# Altium schematic symbol library RS485_SCH_Lib.SchLib: 30 symbols
Pins are listed as number, name and electrical type; pins without a type are passive.

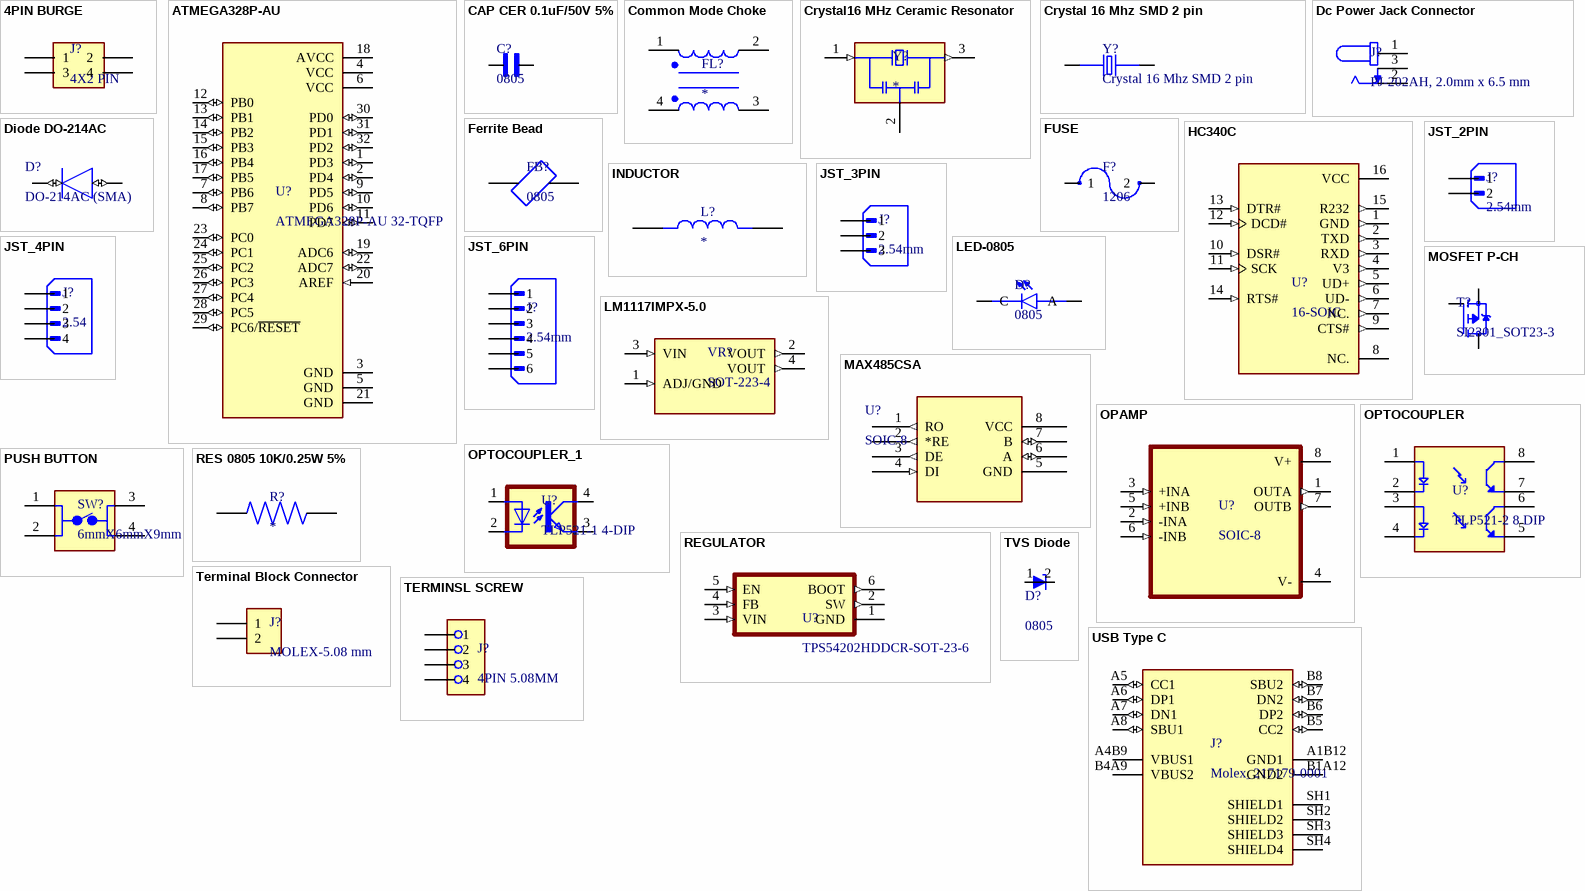
[diagram p0: symbols 4PIN BURGE to USB Type C]

## 4PIN BURGE
designator J?, comment 4X2 PIN
Connector Header Through Hole 4 position 0.100 (2.54mm), 4X2 PIN; MF: Samtec; MP: MTLW-102-05-G-D-180; SnapEDA_Link: https://www.snapeda.com/parts/MTLW-102-05-G-D-180/Samtec/view-part/?ref=snap; Package: None; Value: *; Check_prices: https://www.snapeda.com/parts/MTLW-102-05-G-D-180/Samtec/view-part/?ref=eda
footprint 4PIN BURGE (Connector Header Through Hole 4 position 0.100 (2.54mm), 4X2 PIN)
pins: 01 1, 02 2, 03 3, 04 4

## ATMEGA328P-AU
designator U?, comment ATMEGA328P-AU 32-TQFP
AVR AVRÂ® ATmega Microcontroller IC 8-Bit 20MHz 32KB (16K x 16) FLASH 32-TQFP (7x7); MF: Microchip; SnapEDA_Link: https://www.snapeda.com/parts/ATMEGA328P-AU/Microchip/view-part/?ref=snap; Package: TQFP-32 Microchip; Value: *; MP: ATMEGA328P-AU; Check_prices: https://www.snapeda.com/parts/ATMEGA328P-AU/Microchip/view-part/?ref=eda
footprint ATMEGA328P-AU (ATMEGA328P-AU MCU 8-bit 20 MHz - 32 KB - 2 KB - TQFN32)
pins: 1 PD3 (io), 2 PD4 (io), 3 GND (power), 4 VCC (power), 5 GND (power), 6 VCC (power), 7 PB6 (io), 8 PB7 (io), 9 PD5 (io), 10 PD6 (io), 11 PD7 (io), 12 PB0 (io), 13 PB1 (io), 14 PB2 (io), 15 PB3 (io), 16 PB4 (io), 17 PB5 (io), 18 AVCC (power), 19 ADC6 (io), 20 AREF (in), 21 GND (power), 22 ADC7 (io), 23 PC0 (io), 24 PC1 (io), 25 PC2 (io), 26 PC3 (io), 27 PC4 (io), 28 PC5 (io), 29 PC6/~{RESET} (io), 30 PD0 (io), 31 PD1 (io), 32 PD2 (io)

## CAP CER 0.1uF/50V 5%
designator C?, comment 0805
CAP CER 0.1uF/50V X7R 0805; MP: GCJ216R71H222KA01D; Package: None; Price: None; Value: *; Availability: Unavailable
footprint CAP CER 100pF 5% (CAP CER 100PF50V X7R 0805)
pins: 1, 2

## Common Mode Choke
designator FL?
DLW21HN900SQ2L,2 Line Common Mode Choke Surface Mount 90 Ohms @ 100MHz 330mA DCR 350mOhm; MF: Murata Electronics; MP: DLW21HN900SQ2L; Availability: In Stock; Value: *; Price: None; SnapEDA_Link: https://www.snapeda.com/parts/DLW21HN900SQ2L/Murata/view-part/10021/?ref=snap; Check_prices: https://www.snapeda.com/parts/DLW21HN900SQ2L/Murata/view-part/10021/?ref=eda; Package: Horizontal-4 Murata Electronics
footprint Common Mode Choke (DLW21HN900SQ2L,2 Line Common Mode Choke Surface Mount 90 Ohms @ 100MHz 330mA DCR 350mOhm)
pins: 1, 2, 3, 4

## Crystal16 MHz Ceramic Resonator
designator Y?
16 MHz Ceramic Resonator Built in Capacitor 15 pF Â±0.3% -20Â°C ~ 80Â°C Surface Mount-CSTCE16M0V53-R0; MF: Murata; MP: CSTCE16M0V53-R0-; SnapEDA_Link: https://www.snapeda.com/parts/CSTCE16M0V53-R0-/Murata/view-part/?ref=snap; Package: None; Value: *; Check_prices: https://www.snapeda.com/parts/CSTCE16M0V53-R0-/Murata/view-part/?ref=eda
footprint Crystal16 MHz Ceramic Resonator (16 MHz Ceramic Resonator Built in Capacitor 15 pF Â±0.3% -20Â°C ~ 80Â°C Surface Mount-CSTCE16M0V53-R0)
pins: 1 IN (in), 2 GND (power), 3 OUT (out)

## Crystal 16 Mhz SMD 2 pin
designator Y?
16 Mhz Crystal SMD –CSM-4ALX(28ALX) 12.5mmX4.85mmX4mm; MF: Fox Electronics; MP: FOXSDLF/128-20; SnapEDA_Link: https://www.snapeda.com/parts/FOXSDLF/128-20/Fox+Electronics/view-part/?ref=snap; Package: HC49SD Fox Electronics; Value: *; Check_prices: https://www.snapeda.com/parts/FOXSDLF/128-20/Fox+Electronics/view-part/?ref=eda
footprint Crystal 16 Mhz SMD (16 Mhz Crystal SMD –CSM-4ALX(28ALX) 12.5mmX4.85mmX4mm)
pins: 1, 2

## Dc Power Jack Connector
designator J?, comment PJ-202AH, 2.0mm x 6.5 mm
PJ-202AH, 2.0mm x 6.5 mm, 5.0 A, Horizontal, Through Hole, Kinked Pins, Dc Power Jack Connector; MF: Same Sky; SnapEDA_Link: https://www.snapeda.com/parts/PJ-202AH/Same+Sky/view-part/?ref=snap; Package: None; Value: *; MP: PJ-202AH; Check_prices: https://www.snapeda.com/parts/PJ-202AH/Same+Sky/view-part/?ref=eda
footprint Dc Power Jack Connector (CUI_PJ-202AH)
pins: 1, 2, 3

## Diode DO-214AC
designator D?, comment DO-214AC (SMA)
Diode Standard 100 V 1A Surface Mount DO-214AC (SMA); MF: Vishay Semiconductor; MP: S1B-E3/61T; SnapEDA_Link: https://www.snapeda.com/parts/S1B-E3/61T/Vishay/view-part/?ref=snap; Package: DO-214 Vishay Semiconductor; Value: *; Check_prices: https://www.snapeda.com/parts/S1B-E3/61T/Vishay/view-part/?ref=eda
footprint Diode DO-214AC (Diode Standard 100 V 1A Surface Mount DO-214AC (SMA))
pins: 1 K (io), 2 A (io)

## Ferrite Bead
designator FB?, comment 0805
Ferrite Bead 0805; MP: MPZ2012S102AT000; Package: None; Price: None; Value: *; Availability: Unavailable
footprint Ferrite Bead (Ferrite Bead 0805)
pins: 1, 2

## FUSE
designator F?, comment 1206
C1H25 .5 A 125 V AC 32 V DC Fuse Board Mount (Cartridge Style Excluded) Surface Mount 1206 (3216 Metric); MF: Bel Fuse; SnapEDA_Link: https://www.snapeda.com/parts/C1H25/Bel+Circuit+Protection/view-part/?ref=snap; Package: 1206 Bel Fuse Inc.; Value: *; MP: C1H25; Check_prices: https://www.snapeda.com/parts/C1H25/Bel+Circuit+Protection/view-part/?ref=eda
footprint FUSE (C1H25 .5 A 125 V AC 32 V DC Fuse Board Mount (Cartridge Style Excluded) Surface Mount 1206 (3216 Metric))
pins: 1, 2

## HC340C
designator U?, comment 16-SOIC
FTDI 16-SOIC; MF: Toshiba; MP: 74HC595D; SnapEDA_Link: https://www.snapeda.com/parts/74HC595D/Toshiba/view-part/?ref=snap; Package: SOIC-16 ON Semiconductor; Value: *; Check_prices: https://www.snapeda.com/parts/74HC595D/Toshiba/view-part/?ref=eda
footprint HC340C (FTDI 16-SOIC)
pins: 1 GND (out), 2 TXD (out), 3 RXD (out), 4 V3 (out), 5 UD+ (out), 6 UD- (out), 7 NC. (out), 8 NC. (power), 9 CTS# (out), 10 DSR# (in), 11 SCK (in), 12 DCD# (in), 13 DTR# (in), 14 RTS# (in), 15 R232 (out), 16 VCC (power)

## INDUCTOR
designator L?
12 ÂµH Shielded Drum Core, Wirewound Inductor 1.3 A,ASPI-4030S-120M-T; MF: Abracon LLC; Purchase-URL: https://pricing.snapeda.com/search/part/ASPI-4030S-120M-T/?ref=eda; SnapEDA_Link: https://www.snapeda.com/parts/ASPI-4030S-120M-T/Abracon+LLC/view-part/?ref=snap; Package: Nonstandard Abracon; MP: ASPI-4030S-120M-T; Value: *; Check_prices: https://www.snapeda.com/parts/ASPI-4030S-120M-T/Abracon+LLC/view-part/?ref=eda; Availability: In Stock; Price: None
footprint INDUCTOR (IND_ASPI-4030S-120M-T)
pins: 1, 2

## JST_2PIN
designator J?, comment 2.54mm
B2B-XH-A(LF)(SN),Connector Header Through Hole 3 position 0.098 (2.50mm)Connector Header Through Hole 2 position 0.098 (2.50mm); MF: JST Sales; SnapEDA_Link: https://www.snapeda.com/parts/B2B-XH-A(LF)(SN)/JST/view-part/?ref=snap; Package: None; Value: *; MP: B2B-XH-A(LF)(SN); Check_prices: https://www.snapeda.com/parts/B2B-XH-A(LF)(SN)/JST/view-part/?ref=eda
footprint JST_2PIN (B2B-XH-A(LF)(SN),Connector Header Through Hole 3 position 0.098 (2.50mm)Connector Header Through Hole 2 position 0.098 (2.50mm))
pins: 1, 2

## JST_3PIN
designator J?, comment 2.54mm
B3B-XH-A(LF)(SN),Connector Header Through Hole 3 position 0.098 (2.50mm); MF: JST Sales; SnapEDA_Link: https://www.snapeda.com/parts/B3B-XH-A(LF)(SN)/JST/view-part/?ref=snap; Package: None; Value: *; MP: B3B-XH-A(LF)(SN); Check_prices: https://www.snapeda.com/parts/B3B-XH-A(LF)(SN)/JST/view-part/?ref=eda
footprint JST_3PIN (B3B-XH-A(LF)(SN),Connector Header Through Hole 3 position 0.098 (2.50mm))
pins: 1, 2, 3

## JST_4PIN
designator J?, comment 2.54
B4B-XH-A(LF)(SN),Connector Header Through Hole 4 position 0.098 (2.50mm); MF: JST Sales; SnapEDA_Link: https://www.snapeda.com/parts/B4B-XH-A(LF)(SN)/JST+Sales+America+Inc./view-part/?ref=snap; Package: None; Value: *; MP: B4B-XH-A(LF)(SN); Check_prices: https://www.snapeda.com/parts/B4B-XH-A(LF)(SN)/JST+Sales+America+Inc./view-part/?ref=eda
footprint JST_4PIN (B4B-XH-A(LF)(SN),Connector Header Through Hole 4 position 0.098 (2.50mm))
pins: 1, 2, 3, 4

## JST_6PIN
designator J?, comment 2.54mm
B6B-XH-A(LF),Connector Header Through Hole 6 position 0.098 (2.50mm),B6B-XH-A(LF)(SN); MF: JST Sales; SnapEDA_Link: https://www.snapeda.com/parts/B6B-XH-A(LF)(SN)/JST+Sales+America+Inc./view-part/?ref=snap; Package: None; Value: *; MP: B6B-XH-A(LF)(SN); Check_prices: https://www.snapeda.com/parts/B6B-XH-A(LF)(SN)/JST+Sales+America+Inc./view-part/?ref=eda
footprint JST_6PIN (Connector Header Through Hole 6 position 0.098 (2.50mm),B6B-XH-A(LF)(SN))
pins: 1, 2, 3, 4, 5, 6

## LED-0805
designator D?, comment 0805
Red 640nm LED Indication - Discrete 1.85V 0805 (2012 Metric); MF: Kingbright; MP: APT2012SRCPRV; SnapEDA_Link: https://www.snapeda.com/parts/APT2012SRCPRV/Kingbright/view-part/?ref=snap; Package: 0805 Kingbright; Value: *; Check_prices: https://www.snapeda.com/parts/APT2012SRCPRV/Kingbright/view-part/?ref=eda
footprint LED-0805 (Red 640nm LED Indication - Discrete 1.85V 0805 (2012 Metric))
pins: A, C

## LM1117IMPX-5.0
designator VR?, comment SOT-223-4
800-mA 15-V linear voltage regulator; MF: Texas Instruments; MP: LM1117IMPX-5.0/NOPB; SnapEDA_Link: https://www.snapeda.com/parts/LM1117IMPX-5.0/NOPB/Texas+Instruments/view-part/?ref=snap; Package: SOT-223-4 Texas Instruments; Value: *; Check_prices: https://www.snapeda.com/parts/LM1117IMPX-5.0/NOPB/Texas+Instruments/view-part/?ref=eda
footprint LM1117IMPX-5.0
pins: 1 ADJ/GND (in), 2 VOUT (out), 3 VIN (in), 4 VOUT (out)

## MAX485CSA
designator U?, comment SOIC-8
MAX485CSA-RS-485/RS-422 Transceivers, SOIC-8; MF: Analog Devices; MP: MAX485CSA+; SnapEDA_Link: https://www.snapeda.com/parts/MAX485CSA+/Analog+Devices/view-part/?ref=snap; Package: SOIC-8 Maxim; Value: *; Check_prices: https://www.snapeda.com/parts/MAX485CSA+/Analog+Devices/view-part/?ref=eda
footprint MAX485CSA Transceivers (MAX485CSA-RS-485/RS-422 Transceivers, SOIC-8)
pins: 1 RO (out), 2 *RE (out), 3 DE (out), 4 DI (in), 5 GND (power), 6 A (io), 7 B (io), 8 VCC (power)

## MOSFET P-CH
designator T?, comment SI2301_SOT23-3
MOSFET P-CH SI2301 20V 2.2A SOT23-3; MF: Micro Commercial Components (MCC); SnapEDA_Link: https://www.snapeda.com/parts/SI2301/Micro+Commercial+Components/view-part/?ref=snap; Package: SOT-23 MCC; Value: *; MP: SI2301; Check_prices: https://www.snapeda.com/parts/SI2301/Micro+Commercial+Components/view-part/?ref=eda
footprint MOSFET P-CH (MOSFET P-CH 20V 2.2A SOT23-3)
pins: 1 G, 2 S, 3 D

## OPAMP
designator U?, comment SOIC-8
LMV342MA,Dual, 5.5-V, 1-MHz, high output current (75-mA) op amp,SOIC-8; MF: Texas Instruments; MP: LMV342MAX/NOPB; SnapEDA_Link: https://www.snapeda.com/parts/LMV342MAX/NOPB/Texas+Instruments/view-part/?ref=snap; Package: SOIC-8 Texas Instruments; Value: *; Check_prices: https://www.snapeda.com/parts/LMV342MAX/NOPB/Texas+Instruments/view-part/?ref=eda
footprint OPAMP (LMV342MA,Dual, 5.5-V, 1-MHz, high output current (75-mA) op amp,SOIC-8)
pins: 1 OUTA (out), 2 -INA (in), 3 +INA (in), 4 V- (power), 5 +INB (in), 6 -INB (in), 7 OUTB (out), 8 V+ (power)

## OPTOCOUPLER
designator U?, comment TLP521-2 8 DIP
TLP521-2,Optoisolateur Ã  sortie transistor 5300 Vrms 2 canaux 8 DIP; MF: Toshiba; SnapEDA_Link: https://www.snapeda.com/parts/TLP521-2/Toshiba/view-part/?ref=snap; Package: DIP-8 Toshiba; Value: *; MP: TLP521-2; Check_prices: https://www.snapeda.com/parts/TLP521-2/Toshiba/view-part/?ref=eda
footprint OPTOCOUPLER (TLP521-2,Optoisolateur Ã  sortie transistor 5300 Vrms 2 canaux 8 DIP)
pins: 1, 2, 3, 4, 5, 6, 7, 8

## OPTOCOUPLER_1
designator U?, comment TLP521-1 4-DIP
TLP521-1,Optoisolator Transistor Output 5300Vrms 1 Channel 4-DIP; MF: Isocom; SnapEDA_Link: https://www.snapeda.com/parts/TLP521-1/Isocom/view-part/?ref=snap; Package: DIP-4 Isocom Components; Value: *; MP: TLP521-1; Check_prices: https://www.snapeda.com/parts/TLP521-1/Isocom/view-part/?ref=eda
footprint Optoisolator (TLP521-1,Optoisolator Transistor Output 5300Vrms 1 Channel 4-DIP)
pins: 1 A, 2 C, 3 EMIT, 4 COL

## PUSH BUTTON
designator SW?, comment 6mmX6mmX9mm
Switch Push Button OFF (ON)  SPST Thru-Hole 4 PIN, 6mmX6mmX9mm; MF: TE Connectivity; MP: 3-1825910-1; SnapEDA_Link: https://www.snapeda.com/parts/3-1825910-1/TE+Connectivity+ALCOSWITCH+Switches/view-part/?ref=snap; Package: None; Value: *; Check_prices: https://www.snapeda.com/parts/3-1825910-1/TE+Connectivity+ALCOSWITCH+Switches/view-part/?ref=eda
footprint Push Button (Switch Push Button OFF (ON) SPST Round Button 0.05A 24VDC Momentary Contact PC Pins Thru-Hole)
pins: 1, 2, 3, 4

## REGULATOR
designator U?, comment TPS54202HDDCR-SOT-23-6
TPS54202HDDCR,4.5V to 28V Input, 2A Output, Synchronous Step-Down Voltage Converter,SOT-23-THN-6; MF: Texas Instruments; SnapEDA_Link: https://www.snapeda.com/parts/TPS54202HDDCR/Texas+Instruments/view-part/?ref=snap; Package: SOT-23-THN-6 Texas Instruments; Value: *; MP: TPS54202HDDCR; Check_prices: https://www.snapeda.com/parts/TPS54202HDDCR/Texas+Instruments/view-part/?ref=eda
footprint REGULATOR_TPS54202HDDCR (TPS54202HDDCR,4.5V to 28V Input, 2A Output, Synchronous Step-Down Voltage Converter,SOT-23-THN-6)
pins: 1 GND (power), 2 SW (out), 3 VIN (in), 4 FB (in), 5 EN (in), 6 BOOT (out)

## RES 0805 10K/0.25W 5%
designator R?
RESISTOR, THICK FILM, 10K, 5%, 0805, FRESISTOR, THICK FILM, 10K, 5%, 0805, FULL REEL Product Range:PANASONIC - ERJ Series; MP: ERJ-6GEYJ103V; MF: Panasonic Electronic; Price: None; Check_prices: https://www.snapeda.com/parts/ERJ-6GEYJ103V/Panasonic+Electronic+Components/view-part/?ref=eda; Package: 805-2 Panasonic; Purchase-URL: https://pricing.snapeda.com/search/part/ERJ-6GEYJ103V/?ref=eda; Availability: In Stock; SnapEDA_Link: https://www.snapeda.com/parts/ERJ-6GEYJ103V/Panasonic+Electronic+Components/view-part/?ref=snap; Value: *
footprint RES 0805 10K/0.25W 5% (FRESISTOR, THICK FILM, 10K, 5%, 0805, FULL REEL Product Range:PANASONIC - ERJ Series)
pins: 1, 2

## Terminal Block Connector
designator J?, comment MOLEX-5.08 mm
MOLEX,Screw Type, Horizontal, 5.08 Pitch, 24~12 (AWG), Terminal Block Connector; MF: Same Sky; MP: TB007-508-02BE; SnapEDA_Link: https://www.snapeda.com/parts/TB007-508-02BE/Same+Sky/view-part/?ref=snap; Package: None; Value: *; Check_prices: https://www.snapeda.com/parts/TB007-508-02BE/Same+Sky/view-part/?ref=eda
footprint Terminal Block Connector (MOLEX,Screw Type, Horizontal, 5.08 Pitch, 24~12 (AWG), Terminal Block Connector)
pins: 1, 2

## TERMINSL SCREW
designator J?, comment 4PIN 5.08MM
TERMINSL SCREW, 4PIN, 5.08MM; MF: {'manufacturer': u'Phoenix Contact'}; MP: 1995664; Package: None; Price: None; Value: *; Availability: Unavailable
footprint TERMINSL SCREW CONNECTOR (TERMINSL SCREW, 4PIN, 5.08MM)
pins: 1, 2, 3, 4

## TVS Diode
designator D?, comment 0805
Nexperia PRTR5V0U2X,215, Dual-Element Uni-Directional TVS Diode, 0805, 5V; MF: NXP Semiconductors; Check_prices: https://www.snapeda.com/parts/PRTR5V0U2X/NXP+Semiconductors/view-part/?ref=eda; Value: *; Purchase-URL: https://pricing.snapeda.com/search/part/PRTR5V0U2X/?ref=eda; Price: None; MP: PRTR5V0U2X; SnapEDA_Link: https://www.snapeda.com/parts/PRTR5V0U2X/NXP+Semiconductors/view-part/?ref=snap; Availability: In Stock; Package: TO-253-4 Nexperia USA Inc.
footprint TVS Diode,Uni-Directional, 4-Pin
pins: 1 GND, 2 I/O_1

## USB Type C
designator J?, comment Molex_217179-0001
USB Type C - Connector, Top-mount SMT, 16pos | Molex Incorporated 217179-0001; SnapEDA_Link: https://www.snapeda.com/parts/217179-0001/Molex/view-part/?ref=snap; Package: None; Value: *; MF: Molex; MP: 217179-0001; Check_prices: https://www.snapeda.com/parts/217179-0001/Molex/view-part/?ref=eda
footprint USB Type C MOLEX (USB Type C MOLEX_2171790001)
pins: A1B12 GND1 (power), A4B9 VBUS1 (power), A5 CC1 (io), A6 DP1 (io), A7 DN1 (io), A8 SBU1 (io), B1A12 GND2 (power), B4A9 VBUS2 (power), B5 CC2 (io), B6 DP2 (io), B7 DN2 (io), B8 SBU2 (io), SH1 SHIELD1, SH2 SHIELD2, SH3 SHIELD3, SH4 SHIELD4